# Altium footprint library PCB1_1.PcbLib: 64 footprints (part 1 of 4)
Each footprint in its own frame and in the unit in brackets; x right, y up, seen from the top. Pads: shape width x height; smd on the part's side, far side on the other; paste and mask are expansions set on the pad; w line width, h text height; cw(c..) or ccw(c..) is an arc to the next point about the centre after c.
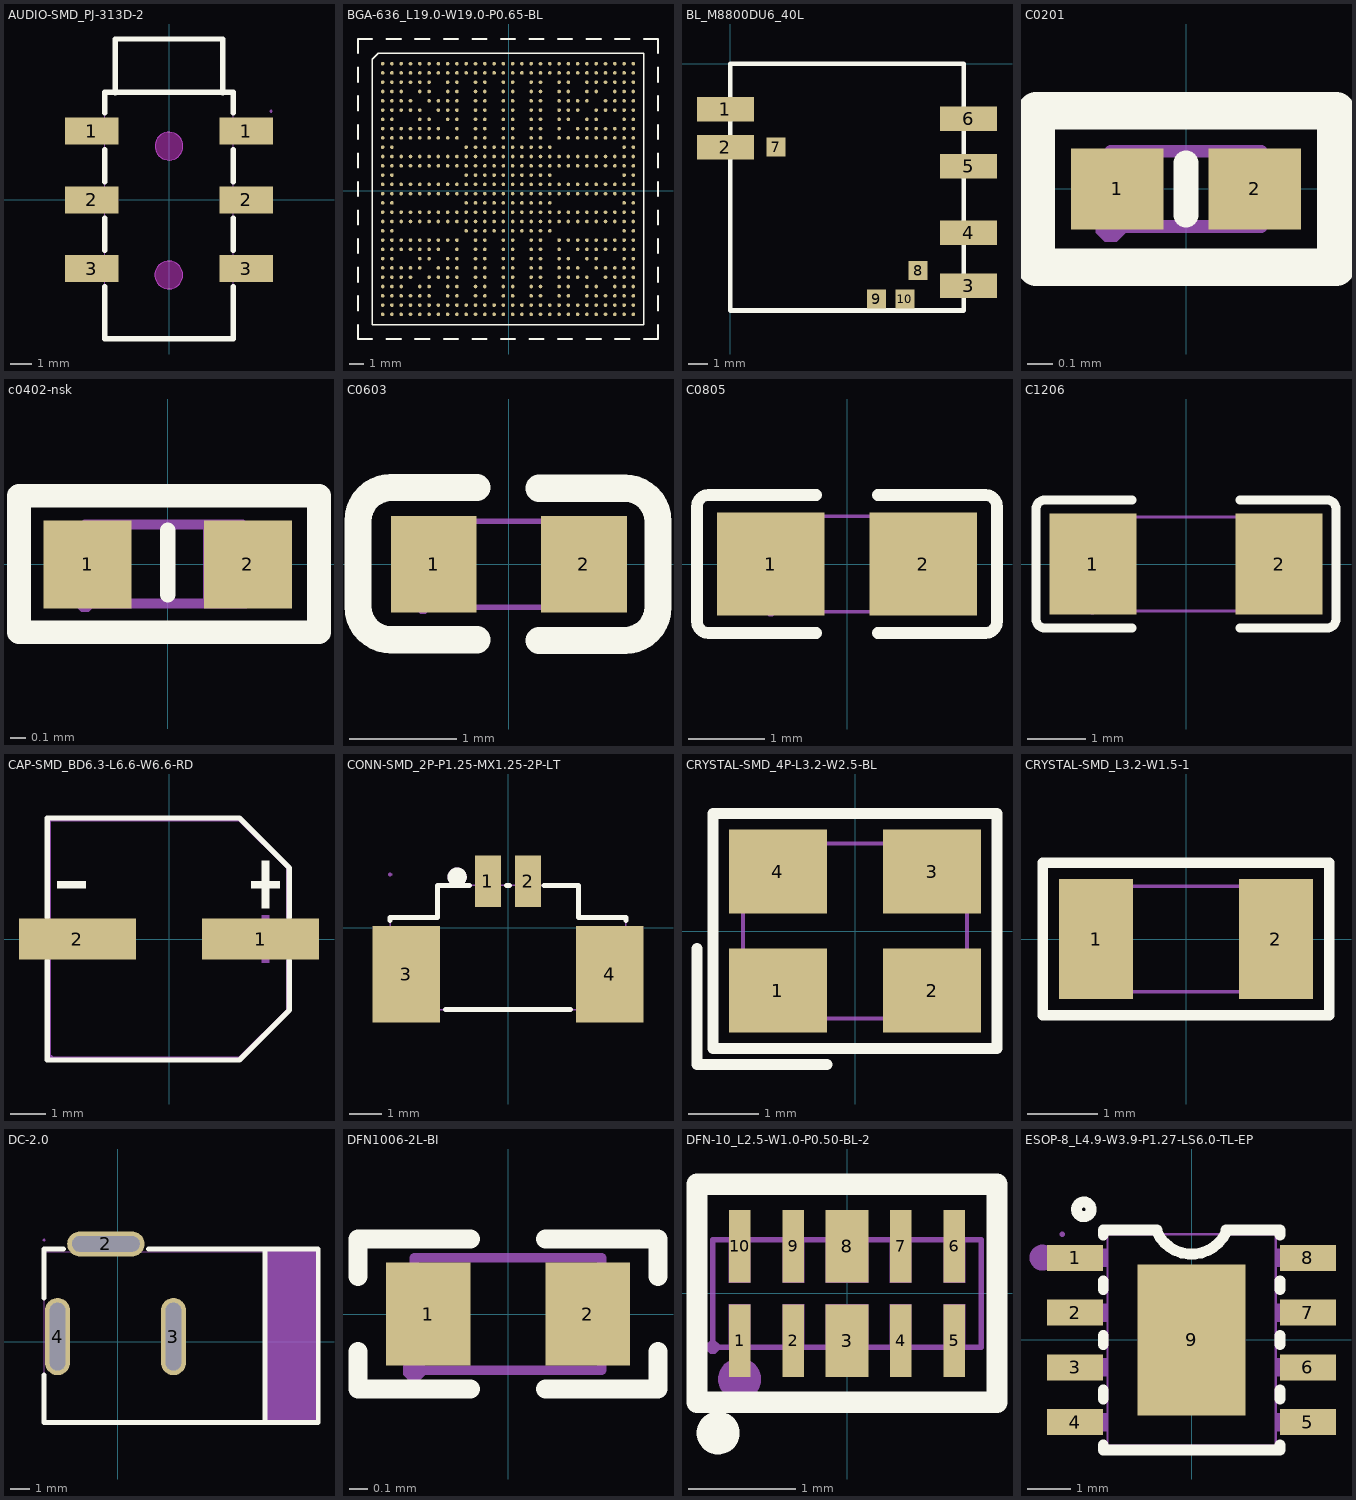
[diagram p0: the footprints below, top view; thin cyan lines are the x and y axes]

## AUDIO-SMD_PJ-313D-2 [mm]
pads (6):
  rect 2.5x1.25 smd: 1(-3.6,3.205) 1(3.6,3.205) 2(-3.6,-0.005) 2(3.6,-0.005) 3(-3.6,-3.205) 3(3.6,-3.205)
Top Overlay:
  lines w0.254: -3.003,-6.493 2.997,-6.493 ; -3,-6.493 -3,-4.062 ; -3,-2.349 -3,-0.861 ; -3,0.851 -3,2.349 ; -3,4.062 -3,5.016 3,5.016 ; -2.5,5.006 -2.5,7.505 2.5,7.505 2.5,5.005 ; 3,-6.495 3,-4.062 ; 3,-2.349 3,-0.861 ; 3,0.851 3,2.349 ; 3,4.062 3,5.005
Keep-Out Layer:
  board cut-out: 0.65,2.504 0.65,2.419 0.606,2.254 0.52,2.105 0.399,1.984 0.251,1.899 0.086,1.854 -0.086,1.854 -0.251,1.899 -0.399,1.984 -0.52,2.105 -0.606,2.254 -0.65,2.419 -0.65,2.504 -0.65,2.59 -0.606,2.755 -0.52,2.904 -0.399,3.025 -0.251,3.11 -0.086,3.154 0.086,3.154 0.251,3.11 0.399,3.025 0.52,2.904 0.606,2.755 0.65,2.59 0.65,2.504
  board cut-out: 0.642,-3.508 0.642,-3.593 0.598,-3.759 0.513,-3.907 0.391,-4.028 0.243,-4.113 0.078,-4.158 -0.093,-4.158 -0.259,-4.113 -0.407,-4.028 -0.528,-3.907 -0.613,-3.759 -0.658,-3.593 -0.658,-3.508 -0.658,-3.422 -0.613,-3.257 -0.528,-3.109 -0.407,-2.988 -0.259,-2.902 -0.093,-2.858 0.078,-2.858 0.243,-2.902 0.391,-2.988 0.513,-3.109 0.598,-3.257 0.642,-3.422 0.642,-3.508
Keep-Out Layer:
  circle w0.003: c0,2.504 r0.65
  circle w0.003: c-0.008,-3.508 r0.65
  region: 0.65,2.504 0.65,2.419 0.606,2.254 0.52,2.105 0.399,1.984 0.251,1.899 0.086,1.854 -0.086,1.854 -0.251,1.899 -0.399,1.984 -0.52,2.105 -0.606,2.254 -0.65,2.419 -0.65,2.504 -0.65,2.59 -0.606,2.755 -0.52,2.904 -0.399,3.025 -0.251,3.11 -0.086,3.154 0.086,3.154 0.251,3.11 0.399,3.025 0.52,2.904 0.606,2.755 0.65,2.59 0.65,2.504
  region: 0.65,2.504 0.64,2.392 0.611,2.282 0.563,2.179 0.498,2.087 0.418,2.007 0.325,1.942 0.222,1.894 0.113,1.864 0,1.854 -0.113,1.864 -0.222,1.894 -0.325,1.942 -0.418,2.007 -0.498,2.087 -0.563,2.179 -0.611,2.282 -0.64,2.392 -0.65,2.504 -0.64,2.617 -0.611,2.727 -0.563,2.829 -0.498,2.922 -0.418,3.002 -0.325,3.067 -0.222,3.115 -0.113,3.145 0,3.154 0.113,3.145 0.222,3.115 0.325,3.067 0.418,3.002 0.498,2.922 0.563,2.829 0.611,2.727 0.64,2.617
  region: 0.642,-3.508 0.642,-3.593 0.598,-3.759 0.513,-3.907 0.391,-4.028 0.243,-4.113 0.078,-4.158 -0.093,-4.158 -0.259,-4.113 -0.407,-4.028 -0.528,-3.907 -0.613,-3.759 -0.658,-3.593 -0.658,-3.508 -0.658,-3.422 -0.613,-3.257 -0.528,-3.109 -0.407,-2.988 -0.259,-2.902 -0.093,-2.858 0.078,-2.858 0.243,-2.902 0.391,-2.988 0.513,-3.109 0.598,-3.257 0.642,-3.422 0.642,-3.508
  region: 0.642,-3.508 0.633,-3.621 0.603,-3.73 0.555,-3.833 0.49,-3.926 0.41,-4.006 0.317,-4.071 0.215,-4.119 0.105,-4.148 -0.008,-4.158 -0.12,-4.148 -0.23,-4.119 -0.333,-4.071 -0.425,-4.006 -0.506,-3.926 -0.571,-3.833 -0.618,-3.73 -0.648,-3.621 -0.658,-3.508 -0.648,-3.395 -0.618,-3.285 -0.571,-3.183 -0.506,-3.09 -0.425,-3.01 -0.333,-2.945 -0.23,-2.897 -0.12,-2.868 -0.008,-2.858 0.105,-2.868 0.215,-2.897 0.317,-2.945 0.41,-3.01 0.49,-3.09 0.555,-3.183 0.603,-3.285 0.633,-3.395
Mechanical 1:
  circle w0.003: c0,2.504 r0.65
  circle w0.003: c-0.008,-3.508 r0.65
Mechanical 4:
  circle w0.6: c3.7,3.2 r0.3
Mechanical 5:
  lines w0.051: -3,-6.496 3,-6.496 3,5.004 2.5,5.004 2.5,7.504 -2.5,7.504 -2.5,5.004 -3,5.004 -3,-6.496
Mechanical 6:
  region: 4.823,4.134 4.823,4.109 4.788,4.074 4.739,4.074 4.703,4.109 4.703,4.134 4.703,4.158 4.739,4.194 4.788,4.194 4.823,4.158 4.823,4.134
Mechanical 7:
  region: -4.25,3.505 -2.95,3.505 -2.95,2.905 -4.25,2.905
  region: -4.25,0.295 -2.95,0.295 -2.95,-0.305 -4.25,-0.305
  region: -4.25,-2.905 -2.95,-2.905 -2.95,-3.505 -4.25,-3.505
  region: 2.95,-2.905 4.25,-2.905 4.25,-3.505 2.95,-3.505
  region: 2.95,0.295 4.25,0.295 4.25,-0.305 2.95,-0.305
  region: 2.95,3.505 4.25,3.505 4.25,2.905 2.95,2.905
3D body "AUDIO-SMD_PJ-313D-2.step": height 5.01, standoff -0.6, extent -4.258,-6.492 4.242,7.508
3D body: height 0.25, standoff 0, extent -2.554,-0.036 2.526,5.044

## BGA-636_L19.0-W19.0-P0.65-BL [mil]
pads (636):
  round 10 smd: A1(-348.19,349.82) A2(-322.6,349.81) A3(-297.01,349.82) A4(-271.42,349.81) A5(-245.83,349.82) A6(-220.24,349.81) A7(-194.65,349.82) A8(-169.06,349.81) A9(-143.47,349.82) A10(-117.88,349.81) A11(-92.29,349.82) A12(-66.7,349.81) A13(-41.11,349.82) A14(-15.53,349.82) A15(10.08,349.82) A16(35.67,349.82) A17(61.26,349.81) A18(86.85,349.82) A19(112.44,349.81) A20(138.03,349.82) A21(163.62,349.81) A22(189.21,349.82) A23(214.8,349.81) A24(240.39,349.82) A25(265.98,349.81) A26(291.57,349.82) A27(317.16,349.81) A28(342.75,349.82) AA1(-348.19,-161.99) AA2(-322.6,-161.99) AA3(-297.01,-161.99) AA4(-271.42,-161.99) AA5(-245.83,-161.99) AA6(-220.24,-161.99) AA7(-194.65,-162) AA9(-143.48,-161.99) AA11(-92.3,-161.99) AA12(-66.7,-161.99) AA14(-15.52,-161.99) AA15(10.08,-161.99) AA17(61.26,-161.99) AA18(86.85,-161.99) AA20(138.03,-161.99) AA22(189.21,-162) AA23(214.8,-161.99) AA24(240.38,-161.99) AA25(265.98,-161.99) AA26(291.56,-161.99) AA27(317.16,-161.99) AA28(342.74,-161.99) AB1(-348.19,-187.58) AB2(-322.6,-187.58) AB5(-245.83,-187.58) AB6(-220.24,-187.58) AB8(-169.07,-187.58) AB9(-143.47,-187.58) AB11(-92.29,-187.58) AB12(-66.71,-187.58) AB14(-15.53,-187.58) AB15(10.08,-187.58) AB17(61.26,-187.58) AB18(86.85,-187.58) AB20(138.03,-187.58) AB21(163.62,-187.58) AB23(214.79,-187.58) AB24(240.39,-187.58) AB27(317.15,-187.58) AB28(342.75,-187.58) AC1(-348.19,-213.17) AC2(-322.6,-213.17) AC3(-297.01,-213.17) AC4(-271.42,-213.17) AC5(-245.83,-213.17) AC7(-194.65,-213.16) AC8(-169.06,-213.17) AC9(-143.48,-213.17) AC11(-92.3,-213.17) AC12(-66.7,-213.17) AC14(-15.52,-213.17) AC15(10.08,-213.17) AC17(61.26,-213.17) AC18(86.85,-213.17) AC20(138.03,-213.17) AC21(163.62,-213.17) AC22(189.21,-213.16) AC24(240.38,-213.17) AC25(265.98,-213.17) AC26(291.56,-213.17) AC27(317.16,-213.17) AC28(342.74,-213.17) AD1(-348.19,-238.76) AD2(-322.6,-238.76) AD3(-297.01,-238.76) AD4(-271.42,-238.76) AD6(-220.24,-238.75) AD7(-194.65,-238.76) AD8(-169.06,-238.75) AD9(-143.47,-238.76) AD11(-92.29,-238.76) AD12(-66.71,-238.76) AD14(-15.53,-238.76) AD15(10.08,-238.76) AD17(61.26,-238.76) AD18(86.85,-238.76) AD20(138.03,-238.76) AD21(163.62,-238.75) AD22(189.21,-238.76) AD23(214.8,-238.75) AD25(265.97,-238.76) AD26(291.57,-238.76) AD27(317.15,-238.76) AD28(342.75,-238.76) AE1(-348.19,-264.35) AE2(-322.6,-264.35) AE3(-297.01,-264.35) AE5(-245.83,-264.35) AE6(-220.24,-264.35) AE8(-169.06,-264.35) AE9(-143.47,-264.35) AE11(-92.3,-264.35) AE12(-66.7,-264.35) AE14(-15.52,-264.35) AE15(10.08,-264.35) AE17(61.26,-264.35) AE18(86.85,-264.35) AE20(138.03,-264.35) AE21(163.62,-264.35) AE23(214.8,-264.35) AE24(240.39,-264.35) AE26(291.56,-264.35) AE27(317.16,-264.35) AE28(342.74,-264.35) AF1(-348.19,-289.94) AF2(-322.6,-289.94) AF3(-297.01,-289.94) AF4(-271.42,-289.94) AF5(-245.83,-289.94) AF6(-220.24,-289.94) AF8(-169.06,-289.94) AF9(-143.47,-289.94) AF11(-92.29,-289.94) AF12(-66.71,-289.94) AF14(-15.53,-289.94) AF15(10.08,-289.94) AF17(61.26,-289.94) AF18(86.85,-289.94) AF20(138.03,-289.94) AF21(163.62,-289.94) AF23(214.8,-289.94) AF24(240.39,-289.94) AF25(265.98,-289.94) AF26(291.57,-289.94) AF27(317.15,-289.94) AF28(342.75,-289.94) AG1(-348.19,-315.53) AG2(-322.6,-315.53) AG3(-297.01,-315.53) AG4(-271.42,-315.53) AG5(-245.83,-315.53) AG6(-220.24,-315.53) AG7(-194.65,-315.53) AG8(-169.06,-315.53) AG9(-143.47,-315.53) AG10(-117.88,-315.53) AG11(-92.29,-315.53) AG12(-66.7,-315.53) AG13(-41.12,-315.53) AG14(-15.52,-315.53) AG15(10.08,-315.53) AG16(35.67,-315.53) AG17(61.26,-315.53) AG18(86.85,-315.53) AG19(112.44,-315.53) AG20(138.03,-315.53) AG21(163.62,-315.53) AG22(189.21,-315.53) AG23(214.8,-315.53) AG24(240.39,-315.53) AG25(265.98,-315.53) AG26(291.57,-315.53) AG27(317.16,-315.53) AG28(342.74,-315.53) AH1(-348.19,-341.12) AH2(-322.6,-341.12) AH3(-297.01,-341.12) AH4(-271.42,-341.12) AH5(-245.83,-341.12) AH6(-220.24,-341.12) AH7(-194.65,-341.12) AH8(-169.06,-341.12) AH9(-143.47,-341.12) AH10(-117.88,-341.12) AH11(-92.29,-341.12) AH12(-66.7,-341.12) AH13(-41.11,-341.12) AH14(-15.53,-341.12) AH15(10.08,-341.12) AH16(35.67,-341.12) AH17(61.26,-341.12) AH18(86.85,-341.12) AH19(112.44,-341.12) AH20(138.03,-341.12) AH21(163.62,-341.12) AH22(189.21,-341.12) AH23(214.8,-341.12) AH24(240.39,-341.12) AH25(265.98,-341.12) AH26(291.57,-341.12) AH27(317.16,-341.12) AH28(342.75,-341.12) B1(-348.19,324.23) B2(-322.6,324.23) B3(-297.01,324.22) B4(-271.42,324.23) B5(-245.83,324.22) B6(-220.24,324.23) B7(-194.65,324.22) B8(-169.06,324.23) B9(-143.47,324.22) B10(-117.88,324.23) B11(-92.29,324.22) B12(-66.7,324.23) B13(-41.12,324.23) B14(-15.52,324.23) B15(10.08,324.23) B16(35.67,324.23) B17(61.26,324.23) B18(86.85,324.22) B19(112.44,324.23) B20(138.03,324.22) B21(163.62,324.23) B22(189.21,324.22) B23(214.8,324.23) B24(240.39,324.22) B25(265.98,324.23) B26(291.57,324.22) B27(317.16,324.23) B28(342.74,324.23) C1(-348.19,298.64) C2(-322.6,298.64) C3(-297.01,298.64) C4(-271.42,298.63) C5(-245.83,298.64) C6(-220.24,298.63) C8(-169.06,298.63) C9(-143.47,298.64) C11(-92.29,298.64) C12(-66.71,298.64) C14(-15.53,298.64) C15(10.08,298.64) C17(61.26,298.64) C18(86.85,298.64) C20(138.03,298.64) C21(163.62,298.63) C23(214.8,298.63) C24(240.39,298.64) C25(265.98,298.63) C26(291.57,298.64) C27(317.15,298.64) C28(342.75,298.64) D1(-348.19,273.05) D2(-322.6,273.05) D3(-297.01,273.05) D5(-245.83,273.04) D6(-220.24,273.05) D8(-169.06,273.05) D9(-143.47,273.04) D11(-92.3,273.05) D12(-66.7,273.05) D14(-15.52,273.05) D15(10.08,273.05) D17(61.26,273.05) D18(86.85,273.05) D20(138.03,273.04) D21(163.62,273.05) D23(214.8,273.05) D24(240.39,273.04) D26(291.56,273.05) D27(317.16,273.05) D28(342.74,273.05) E1(-348.19,247.46) E2(-322.6,247.46) E3(-297.01,247.46) E4(-271.42,247.46) E6(-220.24,247.45) E7(-194.65,247.46) E8(-169.06,247.45) E9(-143.47,247.46) E11(-92.29,247.46) E12(-66.71,247.46) E14(-15.53,247.46) E15(10.08,247.46) E17(61.26,247.46) E18(86.85,247.46) E20(138.03,247.46) E21(163.62,247.45) E22(189.21,247.46) E23(214.8,247.45) E25(265.97,247.46) E26(291.57,247.46) E27(317.15,247.46) E28(342.75,247.46) F1(-348.19,221.87) F2(-322.6,221.87) F3(-297.01,221.87) F4(-271.42,221.87) F5(-245.83,221.87) F7(-194.65,221.86) F8(-169.06,221.87) F9(-143.48,221.87) F11(-92.3,221.87) F12(-66.7,221.87) F14(-15.52,221.87) F15(10.08,221.87) F17(61.26,221.87) F18(86.85,221.87) F20(138.03,221.87) F21(163.62,221.87) F22(189.21,221.86) F24(240.38,221.87) F25(265.98,221.87) F26(291.56,221.87) F27(317.16,221.87) F28(342.74,221.87) G1(-348.19,196.28) G2(-322.6,196.28) G5(-245.83,196.28) G6(-220.24,196.28) G8(-169.07,196.28) G9(-143.47,196.28) G11(-92.29,196.28) G12(-66.71,196.28) G14(-15.53,196.28) G15(10.08,196.28) G17(61.26,196.28) G18(86.85,196.28) G20(138.03,196.28) G21(163.62,196.28) G23(214.79,196.28) G24(240.39,196.28) G27(317.15,196.28) G28(342.75,196.28) H1(-348.19,170.69) H2(-322.6,170.69) H3(-297.01,170.69) H4(-271.42,170.69) H5(-245.83,170.69) H6(-220.24,170.69) H7(-194.65,170.7) H9(-143.48,170.69) H11(-92.3,170.69) H12(-66.7,170.69) H14(-15.52,170.69) H15(10.08,170.69) H17(61.26,170.69) H18(86.85,170.69) H20(138.03,170.69) H22(189.21,170.7) H23(214.8,170.69) H24(240.38,170.69) H25(265.98,170.69) H26(291.56,170.69) H27(317.16,170.69) H28(342.74,170.69) J1(-348.19,145.1) J2(-322.6,145.1) J3(-297.01,145.1) J4(-271.42,145.1) J5(-245.83,145.1) J6(-220.24,145.1) J7(-194.65,145.1) J8(-169.06,145.1) J9(-143.47,145.1) J11(-92.29,145.1) J12(-66.71,145.1) J14(-15.53,145.1) J15(10.08,145.1) J17(61.26,145.1) J18(86.85,145.1) J20(138.03,145.1) J21(163.62,145.1) J22(189.21,145.1) J23(214.8,145.1) J24(240.39,145.1) J25(265.97,145.1) J26(291.57,145.1) J27(317.15,145.1) J28(342.75,145.1) K1(-348.19,119.51) K2(-322.6,119.51) K10(-117.88,119.51) K11(-92.3,119.51) K12(-66.7,119.51) K13(-41.12,119.51) K14(-15.52,119.51) K15(10.08,119.51) K16(35.67,119.51) K17(61.26,119.51) K18(86.85,119.51) K19(112.44,119.51) K27(317.16,119.51) K28(342.74,119.51) L1(-348.19,93.92) L2(-322.6,93.92) L3(-297.01,93.92) L4(-271.42,93.92) L5(-245.83,93.92) L6(-220.24,93.92) L7(-194.65,93.92) L8(-169.06,93.92) L9(-143.47,93.92) L10(-117.88,93.92) L11(-92.29,93.92) L12(-66.71,93.92) L13(-41.11,93.92) L14(-15.53,93.92) L15(10.08,93.92) L16(35.67,93.92) L17(61.26,93.92) L18(86.85,93.92) L19(112.44,93.92) L20(138.03,93.92) L21(163.62,93.92) L22(189.21,93.92) L23(214.8,93.92) L24(240.39,93.92) L25(265.98,93.92) L26(291.57,93.92) L27(317.15,93.92) L28(342.75,93.92) M1(-348.19,68.33) M2(-322.6,68.33) M3(-297.01,68.33) M4(-271.42,68.33) M5(-245.83,68.33) M6(-220.24,68.33) M7(-194.65,68.33) M8(-169.06,68.33) M9(-143.47,68.33) M10(-117.88,68.33) M11(-92.29,68.33) M12(-66.7,68.33) M13(-41.12,68.33) M14(-15.52,68.33) M15(10.08,68.33) M16(35.67,68.33) M17(61.26,68.33) M18(86.85,68.33) M19(112.44,68.33) M20(138.03,68.33) M21(163.62,68.33) M22(189.21,68.33) M23(214.8,68.33) M24(240.39,68.33) M25(265.98,68.33) M26(291.57,68.33) M27(317.16,68.33) M28(342.74,68.33) N1(-348.19,42.74) N2(-322.6,42.74) N10(-117.88,42.74) N11(-92.29,42.74) N12(-66.7,42.74) N13(-41.11,42.74) N14(-15.53,42.74) N15(10.08,42.74) N16(35.67,42.74) N17(61.26,42.74) N18(86.85,42.74) N19(112.44,42.74) N27(317.16,42.74) N28(342.75,42.74) P1(-348.19,17.15) P2(-322.6,17.15) P3(-297.01,17.15) P4(-271.42,17.15) P5(-245.83,17.15) P6(-220.24,17.15) P7(-194.65,17.15) P8(-169.06,17.15) P9(-143.47,17.15) P10(-117.88,17.15) P11(-92.29,17.15) P12(-66.7,17.15) P13(-41.11,17.15) P14(-15.52,17.15) P15(10.08,17.15) P16(35.67,17.15) P17(61.26,17.15) P18(86.85,17.15) P19(112.44,17.15) P20(138.03,17.15) P21(163.62,17.15) P22(189.21,17.15) P23(214.8,17.15) P24(240.39,17.15) P25(265.98,17.15) P26(291.57,17.15) P27(317.16,17.15) P28(342.75,17.15) R1(-348.19,-8.46) R2(-322.6,-8.45) R3(-297.01,-8.46) R4(-271.42,-8.45) R5(-245.83,-8.46) R6(-220.24,-8.45) R7(-194.65,-8.46) R8(-169.06,-8.45) R9(-143.47,-8.46) R10(-117.88,-8.45) R11(-92.29,-8.46) R12(-66.7,-8.45) R13(-41.11,-8.46) R14(-15.52,-8.45) R15(10.08,-8.45) R16(35.67,-8.46) R17(61.26,-8.45) R18(86.85,-8.46) R19(112.44,-8.45) R20(138.03,-8.46) R21(163.62,-8.45) R22(189.21,-8.46) R23(214.8,-8.45) R24(240.39,-8.46) R25(265.98,-8.45) R26(291.57,-8.46) R27(317.16,-8.45) R28(342.75,-8.46) T1(-348.19,-34.04) T2(-322.6,-34.05) T10(-117.88,-34.05) T11(-92.29,-34.04) T12(-66.7,-34.05) T13(-41.11,-34.04) T14(-15.53,-34.04) T15(10.08,-34.04) T16(35.67,-34.04) T17(61.26,-34.05) T18(86.85,-34.04) T19(112.44,-34.05) T27(317.16,-34.05) T28(342.75,-34.04) U1(-348.19,-59.63) U2(-322.6,-59.63) U3(-297.01,-59.64) U4(-271.42,-59.63) U5(-245.83,-59.64) U6(-220.24,-59.63) U7(-194.65,-59.64) U8(-169.06,-59.63) U9(-143.47,-59.64) U10(-117.88,-59.63) U11(-92.29,-59.64) U12(-66.7,-59.63) U13(-41.12,-59.63) U14(-15.52,-59.63) U15(10.08,-59.63) U16(35.67,-59.63) U17(61.26,-59.63) U18(86.85,-59.64) U19(112.44,-59.63) U20(138.03,-59.64) U21(163.62,-59.63) U22(189.21,-59.64) U23(214.8,-59.63) U24(240.39,-59.64) U25(265.98,-59.63) U26(291.57,-59.64) U27(317.16,-59.63) U28(342.74,-59.63) V1(-348.19,-85.22) V2(-322.6,-85.22) V3(-297.01,-85.22) V4(-271.42,-85.23) V5(-245.83,-85.22) V6(-220.24,-85.23) V7(-194.65,-85.22) V8(-169.06,-85.23) V9(-143.47,-85.22) V10(-117.88,-85.23) V11(-92.29,-85.22) V12(-66.71,-85.22) V13(-41.11,-85.22) V14(-15.53,-85.22) V15(10.08,-85.22) V16(35.67,-85.22) V17(61.26,-85.22) V18(86.85,-85.22) V19(112.44,-85.23) V20(138.03,-85.22) V21(163.62,-85.23) V22(189.21,-85.22) V23(214.8,-85.23) V24(240.39,-85.22) V25(265.98,-85.23) V26(291.57,-85.22) V27(317.15,-85.22) V28(342.75,-85.22) W1(-348.19,-110.81) W2(-322.6,-110.81) W10(-117.88,-110.81) W11(-92.3,-110.81) W12(-66.7,-110.81) W13(-41.12,-110.81) W14(-15.52,-110.81) W15(10.08,-110.81) W16(35.67,-110.81) W17(61.26,-110.81) W18(86.85,-110.81) W19(112.44,-110.81) W27(317.16,-110.81) W28(342.74,-110.81) Y1(-348.19,-136.4) Y2(-322.6,-136.4) Y3(-297.01,-136.4) Y4(-271.42,-136.4) Y5(-245.83,-136.4) Y6(-220.24,-136.41) Y7(-194.65,-136.4) Y8(-169.06,-136.41) Y9(-143.47,-136.4) Y11(-92.29,-136.4) Y12(-66.71,-136.4) Y14(-15.53,-136.4) Y15(10.08,-136.4) Y17(61.26,-136.4) Y18(86.85,-136.4) Y20(138.03,-136.4) Y21(163.62,-136.41) Y22(189.21,-136.4) Y23(214.8,-136.41) Y24(240.39,-136.4) Y25(265.97,-136.4) Y26(291.57,-136.4) Y27(317.15,-136.4) Y28(342.75,-136.4)
Top Overlay:
  lines w5: -416.11,-369.67 -416.11,-409.04 -376.74,-409.04 ; -416.11,-330.3 -416.12,-290.93 ; -416.12,-251.56 -416.11,-212.2 ; -416.11,-172.82 -416.11,-133.45 ; -416.11,-94.08 -416.11,-54.71 ; -416.11,-15.34 -416.11,24.03 ; -416.11,63.41 -416.11,102.78 ; -416.11,142.15 -416.11,181.52 ; -416.11,220.89 -416.12,260.26 ; -416.12,299.63 -416.11,338.99 ; -416.11,378.37 -416.11,417.74 -376.74,417.74 ; -337.37,-409.04 -298,-409.05 ; -337.37,417.74 -298,417.74 ; -258.63,-409.05 -219.27,-409.04 ; -258.63,417.74 -219.27,417.74 ; -179.9,-409.04 -140.52,-409.04 ; -179.9,417.74 -140.52,417.74 ; -101.15,-409.04 -61.78,-409.04 ; -101.15,417.74 -61.78,417.74 ; -22.41,-409.04 16.96,-409.04 ; -22.41,417.74 16.96,417.74 ; 56.33,-409.04 95.71,-409.04 ; 56.33,417.74 95.71,417.74 ; 135.08,-409.04 174.45,-409.04 ; 135.08,417.74 174.45,417.74 ; 213.82,-409.04 253.19,-409.05 ; 213.82,417.74 253.19,417.74 ; 292.56,-409.05 331.92,-409.04 ; 292.56,417.74 331.92,417.74 ; 371.29,-409.04 410.67,-409.04 410.67,-369.67 ; 371.29,417.74 410.67,417.74 410.67,378.37 ; 410.67,-330.3 410.67,-290.93 ; 410.67,-251.56 410.67,-212.2 ; 410.67,-172.82 410.67,-133.45 ; 410.67,-94.08 410.67,-54.71 ; 410.67,-15.34 410.67,24.03 ; 410.67,63.41 410.67,102.78 ; 410.67,142.15 410.67,181.52 ; 410.67,220.89 410.67,260.26 ; 410.67,299.63 410.67,338.99 ; -376.74,-369.67 371.29,-369.67 371.29,378.37 -360.79,378.37 -376.75,362.42 -376.74,-369.67
3D body "BGA-636_L19.0-W19.0-P0.65-BL.step": height 46.85, standoff -7.87, extent -377.57,-369.74 370.46,378.29

## BL_M8800DU6_40L [mm]
pads (10):
  rect 3x1.3 smd: 1(-0.25,-2.4) 2(-0.25,-4.4) 3(12.55,-11.7) 4(12.55,-8.9) 5(12.55,-5.4) 6(12.55,-2.9)
  rect 1x1 smd: 7(2.4,-4.4) 8(9.9,-10.9) 9(7.7,-12.4) 10(9.2,-12.4)
Top Overlay:
  lines w0.254: 0,-13 0,0 12.3,0 12.3,-13 0,-13
3D body: height 0.48, standoff -0.01, extent 0,-13 12.3,0

## C0201 [mil]
pads (2):
  rect 14.51x12.76 smd paste-3937.01 mask+2: 1(-10.8,0) 2(10.8,0)
Top Overlay:
  lines w3.94: 0,-4.11 0,4.08
  lines w5.91: -23.54,-12.3 23.54,-12.3 23.54,12.27 -23.54,12.27 -23.54,-12.3
Top Paste:
  region: -3.19,-5.43 -3.19,5.43 -4.13,6.38 -17.1,6.38 -18.05,5.43 -18.05,-5.43 -17.1,-6.38 -4.13,-6.38
  region: 3.19,-5.43 3.19,5.43 4.13,6.38 17.1,6.38 18.05,5.43 18.05,-5.43 17.1,-6.38 4.13,-6.38
Mechanical 5:
  lines w2: -11.81,-5.91 11.81,-5.91 11.81,5.91 -11.81,5.91 -11.81,-5.91
Mechanical 6:
  region: -9.45,-5.91 -9.45,-6.89 -10.83,-8.27 -12.79,-8.27 -14.17,-6.89 -14.17,-5.91 -14.17,-4.93 -12.79,-3.55 -10.83,-3.55 -9.45,-4.93 -9.45,-5.91
Mechanical 7:
  region: 11.81,-5.91 11.81,5.91 5.91,5.91 5.91,-5.91
  region: -11.81,-5.91 -11.81,5.91 -5.91,5.91 -5.91,-5.91
3D body "C 0201.STEP": height 12.2, standoff -0.39, extent -11.81,-6.31 11.81,6.29

## c0402-nsk [mil]
pads (2):
  rect 22x22 smd paste+0 mask+2: 1(-20,0) 2(20,0)
Top Overlay:
  lines w3.94: 0,-7.54 0,8.53
  lines w5.91: -37.15,-16.92 37.77,-16.92 37.77,17.14 -37.15,17.14 -37.15,-16.92
Mechanical 5:
  lines w2: -20.67,-9.47 18.7,-9.47 18.7,10.21 -20.67,10.21 -20.67,-9.47 ; -20,-10 19.37,-10 19.37,9.69 -20,9.69 -20,-10
Mechanical 6:
  region: -20.66,-7.11 -21.64,-7.11 -23.03,-8.49 -23.03,-10.45 -21.64,-11.83 -20.66,-11.83 -19.69,-11.83 -18.3,-10.45 -18.3,-8.49 -19.69,-7.11 -20.66,-7.11
Mechanical 7:
  region: -20.67,-9.47 -20.67,10.21 -10.83,10.21 -10.83,-9.47
  region: 18.7,-9.47 18.7,10.21 8.86,10.21 8.86,-9.47
3D body "C 0402.STEP": height 20.68, standoff 0.21, extent -19.69,-9.74 19.69,10.74

## C0603 [mm]
pads (2):
  rect 0.8x0.9 smd paste+0 mask+0.051: 1(-0.7,0) 2(0.7,0)
Top Overlay:
  lines w0.254: -0.296,-0.704 -1.096,-0.704 cw(c-1.096,-0.394) -1.406,-0.394 -1.405,0.406 cw(c-1.096,0.406) -1.096,0.715 -0.296,0.715 ; 0.28,-0.71 1.08,-0.71 ccw(c1.08,-0.4) 1.39,-0.4 1.39,0.4 ccw(c1.08,0.4) 1.08,0.71 0.28,0.71
Mechanical 5:
  lines w0.051: -0.8,-0.4 -0.8,0.4 0.8,0.4 0.8,-0.4 -0.8,-0.4
Mechanical 6:
  region: -0.74,-0.4 -0.74,-0.425 -0.775,-0.46 -0.825,-0.46 -0.86,-0.425 -0.86,-0.4 -0.86,-0.375 -0.825,-0.34 -0.775,-0.34 -0.74,-0.375 -0.74,-0.4
Mechanical 7:
  region: -0.8,-0.4 -0.8,0.4 -0.5,0.4 -0.5,-0.4
  region: 0.8,-0.4 0.8,0.4 0.5,0.4 0.5,-0.4
3D body "C 0603.STEP": height 0.81, standoff -0.01, extent -0.8,-0.41 0.8,0.41

## C0805 [mm]
pads (2):
  rect 1.41x1.35 smd paste-100 mask+0.051: 1(-1,0) 2(1,0)
Top Overlay:
  lines w0.152: -0.401,-0.904 -1.811,-0.904 cw(c-1.811,-0.751) -1.964,-0.751 -1.964,0.751 cw(c-1.811,0.751) -1.811,0.904 -0.401,0.904 ; 0.401,-0.904 1.811,-0.904 ccw(c1.811,-0.751) 1.964,-0.751 1.964,0.751 ccw(c1.811,0.751) 1.811,0.904 0.401,0.904
Top Paste:
  region: 1.705,0.64 1.705,-0.64 1.655,-0.69 0.505,-0.69 0.455,-0.64 0.45,-0.23 0.9,-0.23 0.9,0.22 0.46,0.22 0.455,0.64 0.505,0.69 1.655,0.69
  region: -1.705,-0.64 -1.705,0.64 -1.655,0.69 -0.505,0.69 -0.455,0.64 -0.45,0.23 -0.9,0.23 -0.9,-0.22 -0.46,-0.22 -0.455,-0.64 -0.505,-0.69 -1.655,-0.69
Mechanical 5:
  lines w0.051: -1,-0.625 1,-0.625 1,0.625 -1,0.625 -1,-0.625
Mechanical 6:
  region: -1,-0.565 -0.975,-0.565 -0.94,-0.6 -0.94,-0.65 -0.975,-0.685 -1,-0.685 -1.025,-0.685 -1.06,-0.65 -1.06,-0.6 -1.025,-0.565 -1,-0.565
Mechanical 7:
  region: 1,0.625 1,-0.625 0.5,-0.625 0.5,0.625
  region: -1,-0.625 -1,0.625 -0.5,0.625 -0.5,-0.625
3D body "C 0805.STEP": height 0.51, standoff -0.01, extent -1,-0.615 1,0.605

## C1206 [mm]
pads (2):
  rect 1.485x1.728 smd paste-100 mask+0.051: 1(-1.593,0) 2(1.593,0)
Top Overlay:
  lines w0.152: -0.926,-1.093 -2.411,-1.093 cw(c-2.411,-0.94) -2.564,-0.94 -2.564,0.94 cw(c-2.411,0.94) -2.411,1.093 -0.926,1.093 ; 0.926,-1.093 2.411,-1.093 ccw(c2.411,-0.94) 2.564,-0.94 2.564,0.94 ccw(c2.411,0.94) 2.411,1.093 0.926,1.093
Top Paste:
  region: -0.85,-0.764 -0.85,-0.394 -0.95,-0.294 -1.255,-0.294 -1.355,-0.194 -1.355,0.194 -1.255,0.294 -0.95,0.294 -0.85,0.394 -0.85,0.764 -0.95,0.864 -2.235,0.864 -2.335,0.764 -2.335,-0.764 -2.235,-0.864 -0.95,-0.864
  region: 0.85,-0.764 0.85,-0.394 0.95,-0.294 1.255,-0.294 1.355,-0.194 1.355,0.194 1.255,0.294 0.95,0.294 0.85,0.394 0.85,0.764 0.95,0.864 2.235,0.864 2.335,0.764 2.335,-0.764 2.235,-0.864 0.95,-0.864
Mechanical 5:
  lines w0.051: -1.6,-0.8 1.6,-0.8 1.6,0.8 -1.6,0.8 -1.6,-0.8
Mechanical 6:
  region: -1.66,-0.8 -1.66,-0.775 -1.625,-0.74 -1.575,-0.74 -1.54,-0.775 -1.54,-0.8 -1.54,-0.825 -1.575,-0.86 -1.625,-0.86 -1.66,-0.825 -1.66,-0.8
Mechanical 7:
  region: 1.6,-0.8 1.6,0.8 1.1,0.8 1.1,-0.8
  region: -1.6,-0.8 -1.6,0.8 -1.1,0.8 -1.1,-0.8
3D body "C 1206.STEP": height 1.21, standoff -0.01, extent -1.6,-0.81 1.6,0.81

## CAP-SMD_BD6.3-L6.6-W6.6-RD [mm]
pads (2):
  rect 3.26x1.15 smd: 1(2.555,0) 2(-2.555,0)
Top Overlay:
  region: -3.117,1.419 -3.117,1.617 -2.325,1.617 -2.325,1.419
  region: 3.087,1.419 3.087,1.617 2.295,1.617 2.295,1.419
  region: 2.79,0.858 2.79,2.178 2.592,2.178 2.592,0.858
  lines w0.152: -3.391,-0.607 -3.391,-3.376 1.965,-3.376 3.361,-1.98 3.361,-0.607 ; -3.391,0.607 -3.391,3.376 1.965,3.376 3.361,1.98 3.361,0.607
Mechanical 4:
  region: -3.117,-0.099 -3.117,0.099 -2.325,0.099 -2.325,-0.099
  region: 3.087,-0.099 3.087,0.099 2.295,0.099 2.295,-0.099
  region: 2.79,-0.66 2.79,0.66 2.592,0.66 2.592,-0.66
Mechanical 5:
  lines w0.051: -3.315,-3.3 1.965,-3.3 3.285,-1.98 3.285,1.98 1.965,3.3 -3.315,3.3 -3.315,-3.3
Mechanical 6:
  region: -3.242,-3.302 -3.242,-3.327 -3.277,-3.362 -3.327,-3.362 -3.362,-3.327 -3.362,-3.302 -3.362,-3.277 -3.327,-3.242 -3.277,-3.242 -3.242,-3.277 -3.242,-3.302
Mechanical 7:
  region: -3.615,-0.325 -3.615,0.325 -1.015,0.325 -1.015,-0.325
  region: 3.585,-0.325 3.585,0.325 0.985,0.325 0.985,-0.325
3D body "CAP-SMD_BD6.3-L6.6-W6.6-RD.step": height 7, standoff -0.05, extent -3.9,-3.3 3.9,3.3

## CONN-SMD_2P-P1.25-MX1.25-2P-LT [mm]
pads (4):
  rect 0.8x1.6 smd paste+0 mask+0.05: 1(-0.625,1.45) 2(0.625,1.45)
  rect 2.1x3 smd paste+0 mask+0.05: 3(-3.175,-1.45) 4(3.175,-1.45)
Top Overlay:
  circle w0.3: c-1.585,1.58 r0.15
  lines w0.152: -3.68,0.23 -3.68,0.32 -2.2,0.32 -2.2,1.32 -1.205,1.32 ; -1.945,-2.55 1.945,-2.55 ; -0.045,1.32 0.045,1.32 ; 1.12,1.32 2.2,1.32 2.2,0.32 3.68,0.32 3.68,0.23
Mechanical 4:
  circle w0.3: c-1.585,1.58 r0.15
Mechanical 5:
  lines w0.051: -3.675,-2.55 -3.675,0.32 -2.2,0.32 -2.19,1.32 0,1.32 2.2,1.32 2.2,0.32 3.675,0.32 3.675,-2.55 -3.675,-2.55
Mechanical 6:
  region: -3.675,1.6 -3.7,1.6 -3.735,1.635 -3.735,1.685 -3.7,1.72 -3.675,1.72 -3.65,1.72 -3.615,1.685 -3.615,1.635 -3.65,1.6 -3.675,1.6
Mechanical 7:
  region: -0.775,1.66 -0.475,1.66 -0.475,0.66 -0.775,0.66
  region: 0.475,1.66 0.775,1.66 0.775,0.66 0.475,0.66
  region: -3.675,-0.35 -2.475,-0.35 -2.475,-2.55 -3.675,-2.55
  region: 2.475,-0.35 3.675,-0.35 3.675,-2.55 2.475,-2.55
3D body "CONN-SMD_MX1.25-2PLT.step": height 4.6, standoff -0.1, extent -3.735,-2.739 3.715,1.461

## CRYSTAL-SMD_4P-L3.2-W2.5-BL [mm]
pads (4):
  rect 1.4x1.2 smd: 1(-1.1,-0.85) 2(1.1,-0.85) 3(1.1,0.85) 4(-1.1,0.85)
Top Overlay:
  lines w0.152: -2.257,-0.25 -2.257,-1.907 -0.4,-1.907 ; -2.029,-1.678 2.029,-1.678 2.029,1.679 -2.029,1.679 -2.029,-1.678
Mechanical 4:
  circle w0.36: c-1.143,-0.889 r0.18
Mechanical 5:
  lines w0.051: -1.6,-1.25 1.6,-1.25 1.6,1.25 -1.6,1.25 -1.6,-1.25
Mechanical 6:
  region: -1.54,-1.25 -1.54,-1.275 -1.575,-1.31 -1.625,-1.31 -1.66,-1.275 -1.66,-1.25 -1.66,-1.225 -1.625,-1.19 -1.575,-1.19 -1.54,-1.225 -1.54,-1.25
Mechanical 7:
  region: -1.5,-0.35 -0.6,-0.35 -0.6,-1.15 -1.5,-1.15
  region: 0.6,-0.35 1.5,-0.35 1.5,-1.15 0.6,-1.15
  region: 0.6,1.15 1.5,1.15 1.5,0.35 0.6,0.35
  region: -1.5,1.15 -0.6,1.15 -0.6,0.35 -1.5,0.35
3D body "CRYSTAL-SMD_4P-L3.2-W2.5-BL.step": height 0.7, standoff 0, extent -1.6,-1.25 1.6,1.25

## CRYSTAL-SMD_L3.2-W1.5-1 [mm]
pads (2):
  rect 1.05x1.7 smd: 1(-1.275,0) 2(1.275,0)
Top Overlay:
  lines w0.152: -2.029,-1.079 -2.029,1.079 2.029,1.079 2.029,-1.079 -2.029,-1.079
Mechanical 5:
  lines w0.051: -1.6,-0.75 -1.6,0.75 1.6,0.75 1.6,-0.75 -1.6,-0.75
Mechanical 6:
  region: -1.6,-0.81 -1.625,-0.81 -1.66,-0.775 -1.66,-0.725 -1.625,-0.69 -1.6,-0.69 -1.575,-0.69 -1.54,-0.725 -1.54,-0.775 -1.575,-0.81 -1.6,-0.81
Mechanical 7:
  region: -1.45,0.65 -0.85,0.65 -0.85,-0.65 -1.45,-0.65
  region: 0.85,0.65 1.45,0.65 1.45,-0.65 0.85,-0.65
3D body "OSC-SMD_2P-L3.2-W1.5.step": height 0.73, standoff 0, extent -1.6,-0.75 1.6,0.75

## DC-2.0 [mil]
pads (3):
  oval 157.5x51.2 hole 31.5 slot 137.8 at 0 deg paste+0 mask+2: 2(-24.7,199.5)
  oval 51.2x157.5 hole 31.5 slot 137.8 at 90 deg paste+0 mask+2: 3(113.1,10.5) 4(-123.1,10.5)
Top Overlay:
  lines w10: -150.7,-67.7 -150.7,-164.8 408.4,-164.8 ; -150.7,88.8 -150.7,189.5 -111.4,189.5 ; 62,189.5 86.9,189.5 408.4,189.5 408.4,-164.5 ; 299.9,-164.5 299.9,189.8
Mechanical 4:
  region: 410,-165 300,-165 300,190 410,190
Mechanical 5:
  lines w2: -150.7,-162.7 -150.7,183.7 408.4,183.7 408.4,-162.7 -150.7,-162.7
Mechanical 6:
  region: -153.1,207.4 -153.1,208.39 -151.69,209.8 -149.71,209.8 -148.3,208.39 -148.3,207.4 -148.3,206.41 -149.71,205 -151.69,205 -153.1,206.41 -153.1,207.4
Mechanical 7:
  region: -129,-38.7 -129,59.7 -117.2,59.7 -117.2,-38.7
  region: 119,59.7 119,-38.7 107.2,-38.7 107.2,59.7
  region: 24.5,191.6 -73.9,191.6 -73.9,207.4 24.5,207.4
Mechanical 8:
  region: 24.5,207.4 -73.9,207.4 -73.9,179.8 24.5,179.8
3D body "DC-IN-TH_DC-005-5.5-2.0.step": height 433.07, standoff -149.61, extent -145.59,-171.56 405.59,196.56

## DFN1006-2L-BI [mm]
pads (2):
  rect 0.45x0.55 smd: 1(-0.425,0) 2(0.425,0)
Top Overlay:
  lines w0.102: -0.8,-0.2 -0.8,-0.4 -0.2,-0.4 ; -0.8,0.2 -0.8,0.4 -0.2,0.4 ; 0.2,-0.4 0.8,-0.4 0.8,-0.2 ; 0.2,0.4 0.8,0.4 0.8,0.2
Mechanical 5:
  lines w0.051: -0.5,-0.3 0.5,-0.3 0.5,0.3 -0.5,0.3 -0.5,-0.3
Mechanical 6:
  region: -0.5,-0.24 -0.475,-0.24 -0.44,-0.275 -0.44,-0.325 -0.475,-0.36 -0.5,-0.36 -0.525,-0.36 -0.56,-0.325 -0.56,-0.275 -0.525,-0.24 -0.5,-0.24
Mechanical 7:
  region: -0.475,0.254 -0.225,0.254 -0.225,-0.254 -0.475,-0.254
  region: 0.225,0.254 0.475,0.254 0.475,-0.254 0.225,-0.254
3D body "DFN1006-2L-BI.step": height 0.48, standoff -0.01, extent -0.51,-0.3 0.51,0.32

## DFN-10_L2.5-W1.0-P0.50-BL-2 [mm]
pads (10):
  rect 0.2x0.675 smd: 1(-1,-0.44) 2(-0.5,-0.44) 4(0.5,-0.44) 5(1,-0.44) 6(0.999,0.44) 7(0.5,0.44) 9(-0.5,0.44) 10(-0.999,0.44)
  rect 0.4x0.675 smd: 3(0,-0.44) 8(0,0.44)
Top Overlay:
  circle w0.2: c-1.2,-1.3 r0.1
  lines w0.2: -1.397,-0.889 -1.397,1.016 1.397,1.016 1.397,-1.016 -1.397,-1.016 -1.397,-0.635
Mechanical 4:
  circle w0.2: c-1,-0.8 r0.1
Mechanical 5:
  lines w0.051: -1.25,-0.5 -1.25,0.5 1.25,0.5 1.25,-0.5 -1.25,-0.5
Mechanical 6:
  region: -1.19,-0.5 -1.19,-0.525 -1.225,-0.56 -1.275,-0.56 -1.31,-0.525 -1.31,-0.5 -1.31,-0.475 -1.275,-0.44 -1.225,-0.44 -1.19,-0.475 -1.19,-0.5
Mechanical 7:
  region: -0.2,-0.1 0.2,-0.1 0.2,-0.5 -0.2,-0.5
  region: -0.2,0.5 0.2,0.5 0.2,0.1 -0.2,0.1
  region: -1.1,-0.1 -0.9,-0.1 -0.9,-0.5 -1.1,-0.5
  region: -0.6,-0.1 -0.4,-0.1 -0.4,-0.5 -0.6,-0.5
  region: 0.4,-0.1 0.6,-0.1 0.6,-0.5 0.4,-0.5
  region: 0.899,-0.1 1.099,-0.1 1.099,-0.5 0.899,-0.5
  region: 0.899,0.5 1.099,0.5 1.099,0.1 0.899,0.1
  region: 0.4,0.5 0.6,0.5 0.6,0.1 0.4,0.1
  region: -0.6,0.5 -0.4,0.5 -0.4,0.1 -0.6,0.1
  region: -1.1,0.5 -0.9,0.5 -0.9,0.1 -1.1,0.1
3D body "DFN-10_L2.5-W1.0-P0.50-BL-2.step": height 0.55, standoff -0.03, extent -1.25,-0.51 1.26,0.51

## ESOP-8_L4.9-W3.9-P1.27-LS6.0-TL-EP [mm]
pads (9):
  rect 1.3x0.6 smd: 1(-2.7,1.905) 2(-2.7,0.635) 3(-2.7,-0.635) 4(-2.7,-1.905) 5(2.7,-1.905) 6(2.7,-0.635) 7(2.7,0.635) 8(2.7,1.905)
  rect 2.5x3.5 smd: 9(0,0)
Top Overlay:
  circle w0.254: c-2.5,3.03 r0.17
  lines w0.254: -2.05,-2.436 -2.05,-2.55 2.05,-2.55 2.05,-2.436 ; -2.05,-1.374 -2.05,-1.166 ; -2.05,-0.104 -2.05,0.104 ; -2.05,1.166 -2.05,1.374 ; -2.05,2.436 -2.05,2.55 -0.8,2.55 ; -0.8,2.5 ccw(c0,2.875) 0.8,2.5 ; 0.8,2.55 2.05,2.55 2.05,2.436 ; 2.05,-1.374 2.05,-1.166 ; 2.05,-0.104 2.05,0.104 ; 2.05,1.166 2.05,1.374
Mechanical 4:
  circle w0.3: c-3.46,1.91 r0.15
Mechanical 5:
  lines w0.051: -1.95,-2.45 1.95,-2.45 1.95,2.45 -1.95,2.45 -1.95,-2.45
Mechanical 6:
  region: -3,2.51 -2.975,2.51 -2.94,2.475 -2.94,2.425 -2.975,2.39 -3,2.39 -3.025,2.39 -3.06,2.425 -3.06,2.475 -3.025,2.51 -3,2.51
Mechanical 7:
  region: 2.165,2.115 3,2.115 3,1.695 2.165,1.695
  region: 2.165,0.845 3,0.845 3,0.425 2.165,0.425
  region: 2.165,-0.425 3,-0.425 3,-0.845 2.165,-0.845
  region: 2.165,-1.695 3,-1.695 3,-2.115 2.165,-2.115
  region: -3,-1.695 -2.165,-1.695 -2.165,-2.115 -3,-2.115
  region: -3,-0.425 -2.165,-0.425 -2.165,-0.845 -3,-0.845
  region: -3,0.845 -2.165,0.845 -2.165,0.425 -3,0.425
  region: -3,2.115 -2.165,2.115 -2.165,1.695 -3,1.695
  region: -1.206,-1.65 -1.206,1.65 1.206,1.65 1.206,-1.65
Mechanical 8:
  region: 1.94,2.115 2.175,2.115 2.175,1.695 1.94,1.695
  region: 1.94,0.845 2.175,0.845 2.175,0.425 1.94,0.425
  region: 1.94,-0.425 2.175,-0.425 2.175,-0.845 1.94,-0.845
  region: 1.94,-1.695 2.175,-1.695 2.175,-2.115 1.94,-2.115
  region: -2.175,-1.695 -1.94,-1.695 -1.94,-2.115 -2.175,-2.115
  region: -2.175,-0.425 -1.94,-0.425 -1.94,-0.845 -2.175,-0.845
  region: -2.175,0.845 -1.94,0.845 -1.94,0.425 -2.175,0.425
  region: -2.175,2.115 -1.94,2.115 -1.94,1.695 -2.175,1.695
3D body "ESOP-8_L4.9-W3.9-P1.27-LS6.0-TL-EP.step": height 1.61, standoff 0.06, extent -3,-2.45 3,2.45